# Altium footprint library SW-4BIT.PcbLib: 2 footprints
Each footprint in its own frame and in the unit in brackets; x right, y up, seen from the top. Pads: shape width x height; smd on the part's side, far side on the other; paste and mask are expansions set on the pad; w line width, h text height; cw(c..) or ccw(c..) is an arc to the next point about the centre after c.
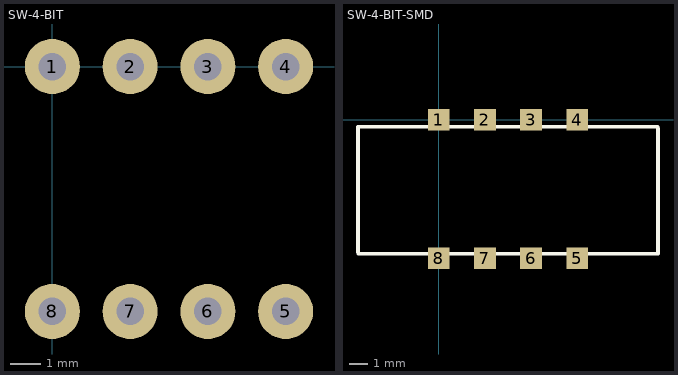
[diagram p0: the footprints below, top view; thin cyan lines are the x and y axes]

## SW-4-BIT [mm]
pads (8):
  round 1.8 hole 0.9: 1(0,0) 2(2.54,0) 3(5.08,0) 4(7.62,0) 5(7.62,-8) 6(5.08,-8) 7(2.54,-8) 8(0,-8)

## SW-4-BIT-SMD [mm]
pads (8):
  rect 1.2x1.2 smd: 1(0,0) 2(2.54,0) 3(5.08,0) 4(7.62,0) 5(7.62,-7.62) 6(5.08,-7.62) 7(2.54,-7.62) 8(0,-7.62)
Top Overlay:
  lines w0.2: -4.445,-7.281 -4.445,-0.381 12.055,-0.381 ; -4.435,-7.366 12.065,-7.366 12.065,-0.466